# Altium footprint library Stäubli-1MM-DOWN.PcbLib: 10 footprints
Each footprint in its own frame and in the unit in brackets; x right, y up, seen from the top. Pads: shape width x height; smd on the part's side, far side on the other; paste and mask are expansions set on the pad; w line width, h text height; cw(c..) or ccw(c..) is an arc to the next point about the centre after c.
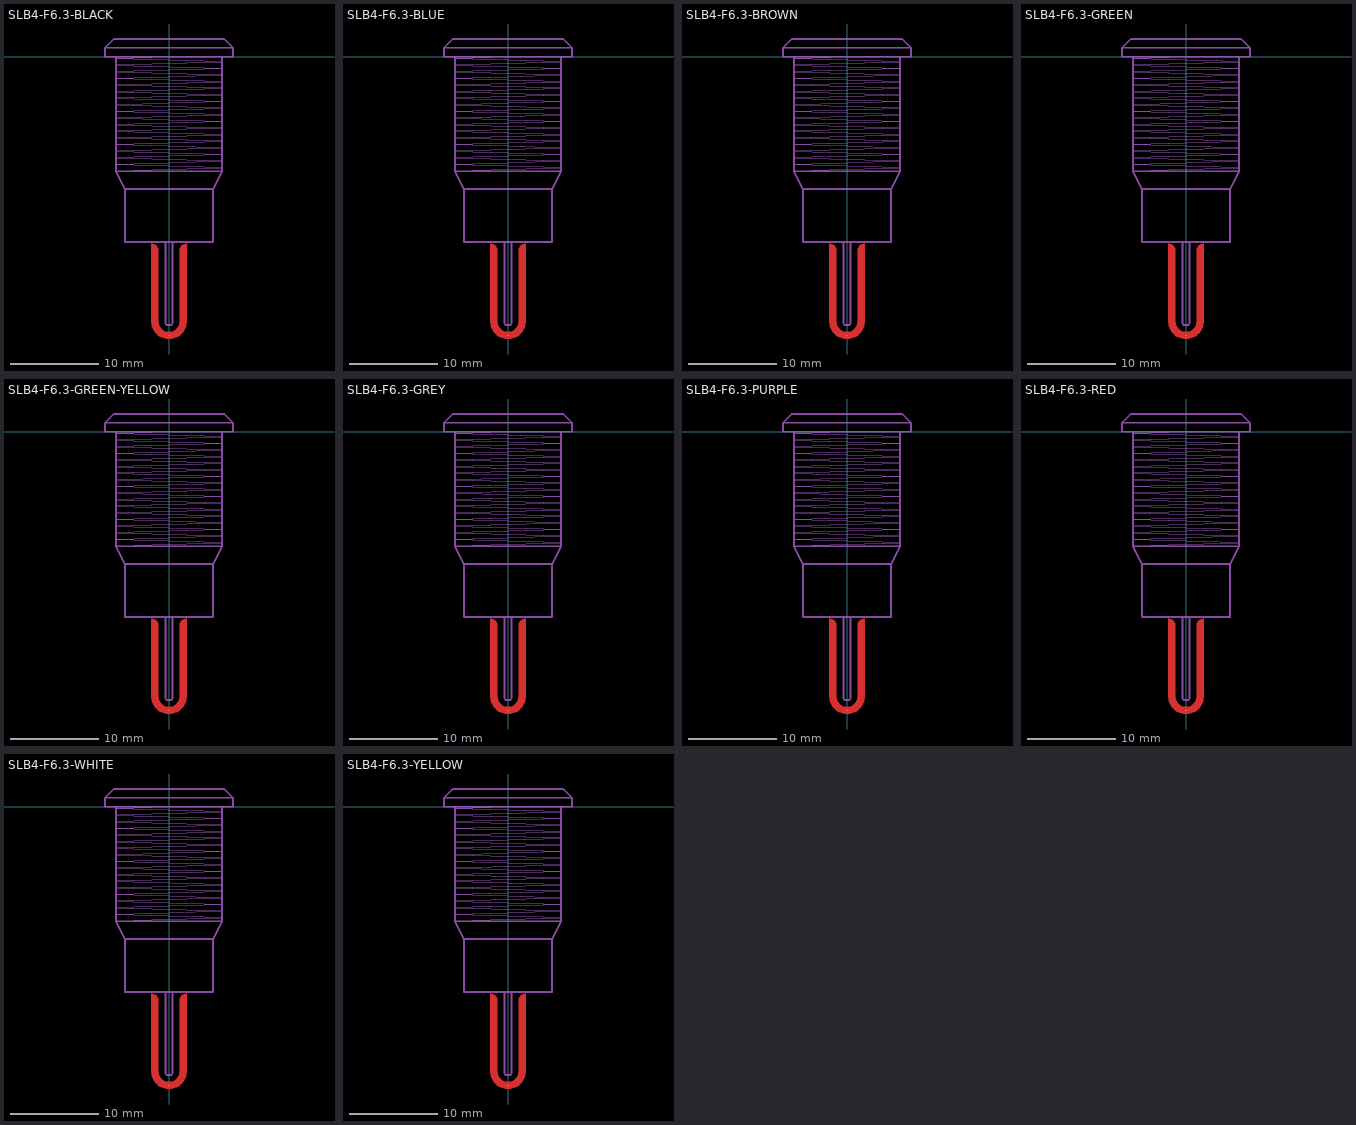
[diagram p0: the footprints below, top view; thin cyan lines are the x and y axes]

## SLB4-F6.3-BLACK [mil]
pads (1):
  round 1 smd: 1(0,-1244.09)
Top Layer:
  region: -47.24,-1181.1 -47.17,-1183.75 -46.58,-1189.02 -45.4,-1194.18 -43.65,-1199.18 -41.35,-1203.96 -38.53,-1208.44 -35.23,-1212.58 -31.48,-1216.33 -27.34,-1219.63 -22.85,-1222.45 -18.08,-1224.75 -13.08,-1226.5 -7.91,-1227.68 -2.65,-1228.27 2.65,-1228.27 7.91,-1227.68 13.08,-1226.5 18.08,-1224.75 22.85,-1222.45 27.34,-1219.63 31.48,-1216.33 35.23,-1212.58 38.53,-1208.44 41.35,-1203.96 43.65,-1199.18 45.4,-1194.18 46.58,-1189.02 47.17,-1183.75 47.24,-1181.1 47.24,-866.14 47.24,-864.08 47.78,-859.98 48.85,-856 50.43,-852.18 52.5,-848.61 55.01,-845.33 57.93,-842.41 61.2,-839.9 64.78,-837.83 68.59,-836.25 72.58,-835.18 76.68,-834.65 78.74,-834.65 78.74,-1181.1 78.74,-1184.97 77.98,-1192.67 76.47,-1200.26 74.23,-1207.66 71.27,-1214.81 67.62,-1221.63 63.32,-1228.06 58.41,-1234.04 52.94,-1239.52 46.96,-1244.42 40.53,-1248.72 33.71,-1252.37 26.56,-1255.33 19.16,-1257.57 11.57,-1259.08 3.87,-1259.84 -3.87,-1259.84 -11.57,-1259.08 -19.16,-1257.57 -26.56,-1255.33 -33.71,-1252.37 -40.53,-1248.72 -46.96,-1244.42 -52.94,-1239.52 -58.41,-1234.04 -63.32,-1228.06 -67.62,-1221.63 -71.27,-1214.81 -74.23,-1207.66 -76.47,-1200.26 -77.98,-1192.67 -78.74,-1184.97 -78.74,-1181.1 -78.74,-834.65 -76.68,-834.65 -72.58,-835.18 -68.59,-836.25 -64.78,-837.83 -61.2,-839.9 -57.93,-842.41 -55.01,-845.33 -52.5,-848.61 -50.43,-852.18 -48.85,-856 -47.78,-859.98 -47.24,-864.08 -47.24,-866.14
Top Assembly:
  lines w3.94: -236.22,-508.86 0,-501.97 236.22,-495.08 ; -236.22,-479.33 0,-472.44 236.22,-465.55 ; -236.22,-449.8 0,-442.91 236.22,-436.02 ; -236.22,-420.28 0,-413.39 236.22,-406.5 ; -236.22,-390.75 0,-383.86 236.22,-376.97 ; -236.22,-361.22 0,-354.33 236.22,-347.44 ; -236.22,-331.69 0,-324.8 236.22,-317.91 ; -236.22,-302.17 0,-295.28 236.22,-288.39 ; -236.22,-272.64 0,-265.75 236.22,-258.86 ; -236.22,-243.11 0,-236.22 236.22,-229.33 ; -236.22,-213.58 0,-206.69 236.22,-199.8 ; -236.22,-184.06 0,-177.17 236.22,-170.28 ; -236.22,-154.53 0,-147.64 236.22,-140.75 ; -236.22,-125 0,-118.11 236.22,-111.22 ; -236.22,-95.47 0,-88.58 236.22,-81.69 ; -236.22,-65.94 0,-59.06 236.22,-52.17 ; -236.22,-36.42 0,-29.53 236.22,-22.64 ; -236.22,-6.89 0,0
  lines w7.87: -236.22,0 -236.22,-511.81 ; -15.75,-826.77 -15.75,-1188.98 -11.81,-1196.85 11.81,-1196.85 15.75,-1188.98 15.75,-826.77 ; 236.22,0 236.22,-511.81 ; -285.43,39.37 -246.06,78.74 246.06,78.74 285.43,39.37 ; -285.43,39.37 -285.43,0 285.43,0 285.43,39.37 ; -285.43,39.37 285.43,39.37 ; -236.22,-511.81 236.22,-511.81 ; -236.22,-511.81 -196.85,-590.55 ; -196.85,-590.55 196.85,-590.55 ; -196.85,-590.55 -196.85,-826.77 196.85,-826.77 196.85,-590.55 ; 196.85,-590.55 236.22,-511.81
Bottom Assembly (Mech12):
  lines w3.94: -236.22,-480.31 0,-487.2 236.22,-494.09 ; -236.22,-450.79 0,-457.68 236.22,-464.57 ; -236.22,-421.26 0,-428.15 236.22,-435.04 ; -236.22,-391.73 0,-398.62 236.22,-405.51 ; -236.22,-362.2 0,-369.09 236.22,-375.98 ; -236.22,-332.68 0,-339.57 236.22,-346.46 ; -236.22,-303.15 0,-310.04 236.22,-316.93 ; -236.22,-273.62 0,-280.51 236.22,-287.4 ; -236.22,-244.09 0,-250.98 236.22,-257.87 ; -236.22,-214.57 0,-221.46 236.22,-228.35 ; -236.22,-185.04 0,-191.93 236.22,-198.82 ; -236.22,-155.51 0,-162.4 236.22,-169.29 ; -236.22,-125.98 0,-132.87 236.22,-139.76 ; -236.22,-96.46 0,-103.35 236.22,-110.24 ; -236.22,-66.93 0,-73.82 236.22,-80.71 ; -236.22,-37.4 0,-44.29 236.22,-51.18 ; -236.22,-7.87 0,-14.76 236.22,-21.65
  lines w7.87: -236.22,0 -236.22,-511.81 ; -15.75,-826.77 -15.75,-1188.98 -11.81,-1196.85 11.81,-1196.85 15.75,-1188.98 15.75,-826.77 ; 236.22,0 236.22,-511.81 ; -285.43,39.37 -285.43,0 285.43,0 285.43,39.37 ; -285.43,39.37 -246.06,78.74 246.06,78.74 285.43,39.37 ; -285.43,39.37 285.43,39.37 ; -236.22,-511.81 236.22,-511.81 ; -236.22,-511.81 -196.85,-590.55 ; -196.85,-590.55 196.85,-590.55 ; -196.85,-590.55 -196.85,-826.77 196.85,-826.77 196.85,-590.55 ; 196.85,-590.55 236.22,-511.81
3D body "SLB4-F6.3_black.step": height 245.47, standoff -324.8, extent -285.27,-1196.85 285.27,78.74

## SLB4-F6.3-BLUE [mil]
pads (1):
  round 1 smd: 1(0,-1244.09)
Top Layer:
  region: -47.24,-1181.1 -47.17,-1183.75 -46.58,-1189.02 -45.4,-1194.18 -43.65,-1199.18 -41.35,-1203.96 -38.53,-1208.44 -35.23,-1212.58 -31.48,-1216.33 -27.34,-1219.63 -22.85,-1222.45 -18.08,-1224.75 -13.08,-1226.5 -7.91,-1227.68 -2.65,-1228.27 2.65,-1228.27 7.91,-1227.68 13.08,-1226.5 18.08,-1224.75 22.85,-1222.45 27.34,-1219.63 31.48,-1216.33 35.23,-1212.58 38.53,-1208.44 41.35,-1203.96 43.65,-1199.18 45.4,-1194.18 46.58,-1189.02 47.17,-1183.75 47.24,-1181.1 47.24,-866.14 47.24,-864.08 47.78,-859.98 48.85,-856 50.43,-852.18 52.5,-848.61 55.01,-845.33 57.93,-842.41 61.2,-839.9 64.78,-837.83 68.59,-836.25 72.58,-835.18 76.68,-834.65 78.74,-834.65 78.74,-1181.1 78.74,-1184.97 77.98,-1192.67 76.47,-1200.26 74.23,-1207.66 71.27,-1214.81 67.62,-1221.63 63.32,-1228.06 58.41,-1234.04 52.94,-1239.52 46.96,-1244.42 40.53,-1248.72 33.71,-1252.37 26.56,-1255.33 19.16,-1257.57 11.57,-1259.08 3.87,-1259.84 -3.87,-1259.84 -11.57,-1259.08 -19.16,-1257.57 -26.56,-1255.33 -33.71,-1252.37 -40.53,-1248.72 -46.96,-1244.42 -52.94,-1239.52 -58.41,-1234.04 -63.32,-1228.06 -67.62,-1221.63 -71.27,-1214.81 -74.23,-1207.66 -76.47,-1200.26 -77.98,-1192.67 -78.74,-1184.97 -78.74,-1181.1 -78.74,-834.65 -76.68,-834.65 -72.58,-835.18 -68.59,-836.25 -64.78,-837.83 -61.2,-839.9 -57.93,-842.41 -55.01,-845.33 -52.5,-848.61 -50.43,-852.18 -48.85,-856 -47.78,-859.98 -47.24,-864.08 -47.24,-866.14
Top Assembly:
  lines w3.94: -236.22,-508.86 0,-501.97 236.22,-495.08 ; -236.22,-479.33 0,-472.44 236.22,-465.55 ; -236.22,-449.8 0,-442.91 236.22,-436.02 ; -236.22,-420.28 0,-413.39 236.22,-406.5 ; -236.22,-390.75 0,-383.86 236.22,-376.97 ; -236.22,-361.22 0,-354.33 236.22,-347.44 ; -236.22,-331.69 0,-324.8 236.22,-317.91 ; -236.22,-302.17 0,-295.28 236.22,-288.39 ; -236.22,-272.64 0,-265.75 236.22,-258.86 ; -236.22,-243.11 0,-236.22 236.22,-229.33 ; -236.22,-213.58 0,-206.69 236.22,-199.8 ; -236.22,-184.06 0,-177.17 236.22,-170.28 ; -236.22,-154.53 0,-147.64 236.22,-140.75 ; -236.22,-125 0,-118.11 236.22,-111.22 ; -236.22,-95.47 0,-88.58 236.22,-81.69 ; -236.22,-65.94 0,-59.06 236.22,-52.17 ; -236.22,-36.42 0,-29.53 236.22,-22.64 ; -236.22,-6.89 0,0
  lines w7.87: -236.22,0 -236.22,-511.81 ; -15.75,-826.77 -15.75,-1188.98 -11.81,-1196.85 11.81,-1196.85 15.75,-1188.98 15.75,-826.77 ; 236.22,0 236.22,-511.81 ; -285.43,39.37 285.43,39.37 ; -285.43,39.37 -285.43,0 285.43,0 285.43,39.37 ; -285.43,39.37 -246.06,78.74 246.06,78.74 285.43,39.37 ; -236.22,-511.81 -196.85,-590.55 ; -236.22,-511.81 236.22,-511.81 ; -196.85,-590.55 -196.85,-826.77 196.85,-826.77 196.85,-590.55 ; -196.85,-590.55 196.85,-590.55 ; 196.85,-590.55 236.22,-511.81
Bottom Assembly (Mech12):
  lines w3.94: -236.22,-480.31 0,-487.2 236.22,-494.09 ; -236.22,-450.79 0,-457.68 236.22,-464.57 ; -236.22,-421.26 0,-428.15 236.22,-435.04 ; -236.22,-391.73 0,-398.62 236.22,-405.51 ; -236.22,-362.2 0,-369.09 236.22,-375.98 ; -236.22,-332.68 0,-339.57 236.22,-346.46 ; -236.22,-303.15 0,-310.04 236.22,-316.93 ; -236.22,-273.62 0,-280.51 236.22,-287.4 ; -236.22,-244.09 0,-250.98 236.22,-257.87 ; -236.22,-214.57 0,-221.46 236.22,-228.35 ; -236.22,-185.04 0,-191.93 236.22,-198.82 ; -236.22,-155.51 0,-162.4 236.22,-169.29 ; -236.22,-125.98 0,-132.87 236.22,-139.76 ; -236.22,-96.46 0,-103.35 236.22,-110.24 ; -236.22,-66.93 0,-73.82 236.22,-80.71 ; -236.22,-37.4 0,-44.29 236.22,-51.18 ; -236.22,-7.87 0,-14.76 236.22,-21.65
  lines w7.87: -236.22,0 -236.22,-511.81 ; -15.75,-826.77 -15.75,-1188.98 -11.81,-1196.85 11.81,-1196.85 15.75,-1188.98 15.75,-826.77 ; 236.22,0 236.22,-511.81 ; -285.43,39.37 285.43,39.37 ; -285.43,39.37 -246.06,78.74 246.06,78.74 285.43,39.37 ; -285.43,39.37 -285.43,0 285.43,0 285.43,39.37 ; -236.22,-511.81 -196.85,-590.55 ; -236.22,-511.81 236.22,-511.81 ; -196.85,-590.55 -196.85,-826.77 196.85,-826.77 196.85,-590.55 ; -196.85,-590.55 196.85,-590.55 ; 196.85,-590.55 236.22,-511.81
3D body "SLB4-F6.3_blue.step": height 245.47, standoff -324.8, extent -285.27,-1196.85 285.27,78.74

## SLB4-F6.3-BROWN [mil]
pads (1):
  round 1 smd: 1(0,-1244.09)
Top Layer:
  region: -47.24,-1181.1 -47.17,-1183.75 -46.58,-1189.02 -45.4,-1194.18 -43.65,-1199.18 -41.35,-1203.96 -38.53,-1208.44 -35.23,-1212.58 -31.48,-1216.33 -27.34,-1219.63 -22.85,-1222.45 -18.08,-1224.75 -13.08,-1226.5 -7.91,-1227.68 -2.65,-1228.27 2.65,-1228.27 7.91,-1227.68 13.08,-1226.5 18.08,-1224.75 22.85,-1222.45 27.34,-1219.63 31.48,-1216.33 35.23,-1212.58 38.53,-1208.44 41.35,-1203.96 43.65,-1199.18 45.4,-1194.18 46.58,-1189.02 47.17,-1183.75 47.24,-1181.1 47.24,-866.14 47.24,-864.08 47.78,-859.98 48.85,-856 50.43,-852.18 52.5,-848.61 55.01,-845.33 57.93,-842.41 61.2,-839.9 64.78,-837.83 68.59,-836.25 72.58,-835.18 76.68,-834.65 78.74,-834.65 78.74,-1181.1 78.74,-1184.97 77.98,-1192.67 76.47,-1200.26 74.23,-1207.66 71.27,-1214.81 67.62,-1221.63 63.32,-1228.06 58.41,-1234.04 52.94,-1239.52 46.96,-1244.42 40.53,-1248.72 33.71,-1252.37 26.56,-1255.33 19.16,-1257.57 11.57,-1259.08 3.87,-1259.84 -3.87,-1259.84 -11.57,-1259.08 -19.16,-1257.57 -26.56,-1255.33 -33.71,-1252.37 -40.53,-1248.72 -46.96,-1244.42 -52.94,-1239.52 -58.41,-1234.04 -63.32,-1228.06 -67.62,-1221.63 -71.27,-1214.81 -74.23,-1207.66 -76.47,-1200.26 -77.98,-1192.67 -78.74,-1184.97 -78.74,-1181.1 -78.74,-834.65 -76.68,-834.65 -72.58,-835.18 -68.59,-836.25 -64.78,-837.83 -61.2,-839.9 -57.93,-842.41 -55.01,-845.33 -52.5,-848.61 -50.43,-852.18 -48.85,-856 -47.78,-859.98 -47.24,-864.08 -47.24,-866.14
Top Assembly:
  lines w3.94: -236.22,-508.86 0,-501.97 236.22,-495.08 ; -236.22,-479.33 0,-472.44 236.22,-465.55 ; -236.22,-449.8 0,-442.91 236.22,-436.02 ; -236.22,-420.28 0,-413.39 236.22,-406.5 ; -236.22,-390.75 0,-383.86 236.22,-376.97 ; -236.22,-361.22 0,-354.33 236.22,-347.44 ; -236.22,-331.69 0,-324.8 236.22,-317.91 ; -236.22,-302.17 0,-295.28 236.22,-288.39 ; -236.22,-272.64 0,-265.75 236.22,-258.86 ; -236.22,-243.11 0,-236.22 236.22,-229.33 ; -236.22,-213.58 0,-206.69 236.22,-199.8 ; -236.22,-184.06 0,-177.17 236.22,-170.28 ; -236.22,-154.53 0,-147.64 236.22,-140.75 ; -236.22,-125 0,-118.11 236.22,-111.22 ; -236.22,-95.47 0,-88.58 236.22,-81.69 ; -236.22,-65.94 0,-59.06 236.22,-52.17 ; -236.22,-36.42 0,-29.53 236.22,-22.64 ; -236.22,-6.89 0,0
  lines w7.87: -236.22,0 -236.22,-511.81 ; -15.75,-826.77 -15.75,-1188.98 -11.81,-1196.85 11.81,-1196.85 15.75,-1188.98 15.75,-826.77 ; 236.22,0 236.22,-511.81 ; -285.43,39.37 285.43,39.37 ; -285.43,39.37 -285.43,0 285.43,0 285.43,39.37 ; -285.43,39.37 -246.06,78.74 246.06,78.74 285.43,39.37 ; -236.22,-511.81 -196.85,-590.55 ; -236.22,-511.81 236.22,-511.81 ; -196.85,-590.55 -196.85,-826.77 196.85,-826.77 196.85,-590.55 ; -196.85,-590.55 196.85,-590.55 ; 196.85,-590.55 236.22,-511.81
Bottom Assembly (Mech12):
  lines w3.94: -236.22,-480.31 0,-487.2 236.22,-494.09 ; -236.22,-450.79 0,-457.68 236.22,-464.57 ; -236.22,-421.26 0,-428.15 236.22,-435.04 ; -236.22,-391.73 0,-398.62 236.22,-405.51 ; -236.22,-362.2 0,-369.09 236.22,-375.98 ; -236.22,-332.68 0,-339.57 236.22,-346.46 ; -236.22,-303.15 0,-310.04 236.22,-316.93 ; -236.22,-273.62 0,-280.51 236.22,-287.4 ; -236.22,-244.09 0,-250.98 236.22,-257.87 ; -236.22,-214.57 0,-221.46 236.22,-228.35 ; -236.22,-185.04 0,-191.93 236.22,-198.82 ; -236.22,-155.51 0,-162.4 236.22,-169.29 ; -236.22,-125.98 0,-132.87 236.22,-139.76 ; -236.22,-96.46 0,-103.35 236.22,-110.24 ; -236.22,-66.93 0,-73.82 236.22,-80.71 ; -236.22,-37.4 0,-44.29 236.22,-51.18 ; -236.22,-7.87 0,-14.76 236.22,-21.65
  lines w7.87: -236.22,0 -236.22,-511.81 ; -15.75,-826.77 -15.75,-1188.98 -11.81,-1196.85 11.81,-1196.85 15.75,-1188.98 15.75,-826.77 ; 236.22,0 236.22,-511.81 ; -285.43,39.37 285.43,39.37 ; -285.43,39.37 -246.06,78.74 246.06,78.74 285.43,39.37 ; -285.43,39.37 -285.43,0 285.43,0 285.43,39.37 ; -236.22,-511.81 -196.85,-590.55 ; -236.22,-511.81 236.22,-511.81 ; -196.85,-590.55 -196.85,-826.77 196.85,-826.77 196.85,-590.55 ; -196.85,-590.55 196.85,-590.55 ; 196.85,-590.55 236.22,-511.81
3D body "SLB4-F6.3_brown.step": height 245.47, standoff -324.8, extent -285.27,-1196.85 285.27,78.74

## SLB4-F6.3-GREEN [mil]
pads (1):
  round 1 smd: 1(0,-1244.09)
Top Layer:
  region: -47.24,-1181.1 -47.17,-1183.75 -46.58,-1189.02 -45.4,-1194.18 -43.65,-1199.18 -41.35,-1203.96 -38.53,-1208.44 -35.23,-1212.58 -31.48,-1216.33 -27.34,-1219.63 -22.85,-1222.45 -18.08,-1224.75 -13.08,-1226.5 -7.91,-1227.68 -2.65,-1228.27 2.65,-1228.27 7.91,-1227.68 13.08,-1226.5 18.08,-1224.75 22.85,-1222.45 27.34,-1219.63 31.48,-1216.33 35.23,-1212.58 38.53,-1208.44 41.35,-1203.96 43.65,-1199.18 45.4,-1194.18 46.58,-1189.02 47.17,-1183.75 47.24,-1181.1 47.24,-866.14 47.24,-864.08 47.78,-859.98 48.85,-856 50.43,-852.18 52.5,-848.61 55.01,-845.33 57.93,-842.41 61.2,-839.9 64.78,-837.83 68.59,-836.25 72.58,-835.18 76.68,-834.65 78.74,-834.65 78.74,-1181.1 78.74,-1184.97 77.98,-1192.67 76.47,-1200.26 74.23,-1207.66 71.27,-1214.81 67.62,-1221.63 63.32,-1228.06 58.41,-1234.04 52.94,-1239.52 46.96,-1244.42 40.53,-1248.72 33.71,-1252.37 26.56,-1255.33 19.16,-1257.57 11.57,-1259.08 3.87,-1259.84 -3.87,-1259.84 -11.57,-1259.08 -19.16,-1257.57 -26.56,-1255.33 -33.71,-1252.37 -40.53,-1248.72 -46.96,-1244.42 -52.94,-1239.52 -58.41,-1234.04 -63.32,-1228.06 -67.62,-1221.63 -71.27,-1214.81 -74.23,-1207.66 -76.47,-1200.26 -77.98,-1192.67 -78.74,-1184.97 -78.74,-1181.1 -78.74,-834.65 -76.68,-834.65 -72.58,-835.18 -68.59,-836.25 -64.78,-837.83 -61.2,-839.9 -57.93,-842.41 -55.01,-845.33 -52.5,-848.61 -50.43,-852.18 -48.85,-856 -47.78,-859.98 -47.24,-864.08 -47.24,-866.14
Top Assembly:
  lines w3.94: -236.22,-508.86 0,-501.97 236.22,-495.08 ; -236.22,-479.33 0,-472.44 236.22,-465.55 ; -236.22,-449.8 0,-442.91 236.22,-436.02 ; -236.22,-420.28 0,-413.39 236.22,-406.5 ; -236.22,-390.75 0,-383.86 236.22,-376.97 ; -236.22,-361.22 0,-354.33 236.22,-347.44 ; -236.22,-331.69 0,-324.8 236.22,-317.91 ; -236.22,-302.17 0,-295.28 236.22,-288.39 ; -236.22,-272.64 0,-265.75 236.22,-258.86 ; -236.22,-243.11 0,-236.22 236.22,-229.33 ; -236.22,-213.58 0,-206.69 236.22,-199.8 ; -236.22,-184.06 0,-177.17 236.22,-170.28 ; -236.22,-154.53 0,-147.64 236.22,-140.75 ; -236.22,-125 0,-118.11 236.22,-111.22 ; -236.22,-95.47 0,-88.58 236.22,-81.69 ; -236.22,-65.94 0,-59.06 236.22,-52.17 ; -236.22,-36.42 0,-29.53 236.22,-22.64 ; -236.22,-6.89 0,0
  lines w7.87: -236.22,0 -236.22,-511.81 ; -15.75,-826.77 -15.75,-1188.98 -11.81,-1196.85 11.81,-1196.85 15.75,-1188.98 15.75,-826.77 ; 236.22,0 236.22,-511.81 ; -285.43,39.37 285.43,39.37 ; -285.43,39.37 -285.43,0 285.43,0 285.43,39.37 ; -285.43,39.37 -246.06,78.74 246.06,78.74 285.43,39.37 ; -236.22,-511.81 -196.85,-590.55 ; -236.22,-511.81 236.22,-511.81 ; -196.85,-590.55 -196.85,-826.77 196.85,-826.77 196.85,-590.55 ; -196.85,-590.55 196.85,-590.55 ; 196.85,-590.55 236.22,-511.81
Bottom Assembly (Mech12):
  lines w3.94: -236.22,-480.31 0,-487.2 236.22,-494.09 ; -236.22,-450.79 0,-457.68 236.22,-464.57 ; -236.22,-421.26 0,-428.15 236.22,-435.04 ; -236.22,-391.73 0,-398.62 236.22,-405.51 ; -236.22,-362.2 0,-369.09 236.22,-375.98 ; -236.22,-332.68 0,-339.57 236.22,-346.46 ; -236.22,-303.15 0,-310.04 236.22,-316.93 ; -236.22,-273.62 0,-280.51 236.22,-287.4 ; -236.22,-244.09 0,-250.98 236.22,-257.87 ; -236.22,-214.57 0,-221.46 236.22,-228.35 ; -236.22,-185.04 0,-191.93 236.22,-198.82 ; -236.22,-155.51 0,-162.4 236.22,-169.29 ; -236.22,-125.98 0,-132.87 236.22,-139.76 ; -236.22,-96.46 0,-103.35 236.22,-110.24 ; -236.22,-66.93 0,-73.82 236.22,-80.71 ; -236.22,-37.4 0,-44.29 236.22,-51.18 ; -236.22,-7.87 0,-14.76 236.22,-21.65
  lines w7.87: -236.22,0 -236.22,-511.81 ; -15.75,-826.77 -15.75,-1188.98 -11.81,-1196.85 11.81,-1196.85 15.75,-1188.98 15.75,-826.77 ; 236.22,0 236.22,-511.81 ; -285.43,39.37 285.43,39.37 ; -285.43,39.37 -246.06,78.74 246.06,78.74 285.43,39.37 ; -285.43,39.37 -285.43,0 285.43,0 285.43,39.37 ; -236.22,-511.81 -196.85,-590.55 ; -236.22,-511.81 236.22,-511.81 ; -196.85,-590.55 -196.85,-826.77 196.85,-826.77 196.85,-590.55 ; -196.85,-590.55 196.85,-590.55 ; 196.85,-590.55 236.22,-511.81
3D body "SLB4-F6.3_green.step": height 245.47, standoff -324.8, extent -285.27,-1196.85 285.27,78.74

## SLB4-F6.3-GREEN-YELLOW [mil]
pads (1):
  round 1 smd: 1(0,-1244.09)
Top Layer:
  region: -47.24,-1181.1 -47.17,-1183.75 -46.58,-1189.02 -45.4,-1194.18 -43.65,-1199.18 -41.35,-1203.96 -38.53,-1208.44 -35.23,-1212.58 -31.48,-1216.33 -27.34,-1219.63 -22.85,-1222.45 -18.08,-1224.75 -13.08,-1226.5 -7.91,-1227.68 -2.65,-1228.27 2.65,-1228.27 7.91,-1227.68 13.08,-1226.5 18.08,-1224.75 22.85,-1222.45 27.34,-1219.63 31.48,-1216.33 35.23,-1212.58 38.53,-1208.44 41.35,-1203.96 43.65,-1199.18 45.4,-1194.18 46.58,-1189.02 47.17,-1183.75 47.24,-1181.1 47.24,-866.14 47.24,-864.08 47.78,-859.98 48.85,-856 50.43,-852.18 52.5,-848.61 55.01,-845.33 57.93,-842.41 61.2,-839.9 64.78,-837.83 68.59,-836.25 72.58,-835.18 76.68,-834.65 78.74,-834.65 78.74,-1181.1 78.74,-1184.97 77.98,-1192.67 76.47,-1200.26 74.23,-1207.66 71.27,-1214.81 67.62,-1221.63 63.32,-1228.06 58.41,-1234.04 52.94,-1239.52 46.96,-1244.42 40.53,-1248.72 33.71,-1252.37 26.56,-1255.33 19.16,-1257.57 11.57,-1259.08 3.87,-1259.84 -3.87,-1259.84 -11.57,-1259.08 -19.16,-1257.57 -26.56,-1255.33 -33.71,-1252.37 -40.53,-1248.72 -46.96,-1244.42 -52.94,-1239.52 -58.41,-1234.04 -63.32,-1228.06 -67.62,-1221.63 -71.27,-1214.81 -74.23,-1207.66 -76.47,-1200.26 -77.98,-1192.67 -78.74,-1184.97 -78.74,-1181.1 -78.74,-834.65 -76.68,-834.65 -72.58,-835.18 -68.59,-836.25 -64.78,-837.83 -61.2,-839.9 -57.93,-842.41 -55.01,-845.33 -52.5,-848.61 -50.43,-852.18 -48.85,-856 -47.78,-859.98 -47.24,-864.08 -47.24,-866.14
Top Assembly:
  lines w3.94: -236.22,-508.86 0,-501.97 236.22,-495.08 ; -236.22,-479.33 0,-472.44 236.22,-465.55 ; -236.22,-449.8 0,-442.91 236.22,-436.02 ; -236.22,-420.28 0,-413.39 236.22,-406.5 ; -236.22,-390.75 0,-383.86 236.22,-376.97 ; -236.22,-361.22 0,-354.33 236.22,-347.44 ; -236.22,-331.69 0,-324.8 236.22,-317.91 ; -236.22,-302.17 0,-295.28 236.22,-288.39 ; -236.22,-272.64 0,-265.75 236.22,-258.86 ; -236.22,-243.11 0,-236.22 236.22,-229.33 ; -236.22,-213.58 0,-206.69 236.22,-199.8 ; -236.22,-184.06 0,-177.17 236.22,-170.28 ; -236.22,-154.53 0,-147.64 236.22,-140.75 ; -236.22,-125 0,-118.11 236.22,-111.22 ; -236.22,-95.47 0,-88.58 236.22,-81.69 ; -236.22,-65.94 0,-59.06 236.22,-52.17 ; -236.22,-36.42 0,-29.53 236.22,-22.64 ; -236.22,-6.89 0,0
  lines w7.87: -236.22,0 -236.22,-511.81 ; -15.75,-826.77 -15.75,-1188.98 -11.81,-1196.85 11.81,-1196.85 15.75,-1188.98 15.75,-826.77 ; 236.22,0 236.22,-511.81 ; -285.43,39.37 285.43,39.37 ; -285.43,39.37 -285.43,0 285.43,0 285.43,39.37 ; -285.43,39.37 -246.06,78.74 246.06,78.74 285.43,39.37 ; -236.22,-511.81 -196.85,-590.55 ; -236.22,-511.81 236.22,-511.81 ; -196.85,-590.55 -196.85,-826.77 196.85,-826.77 196.85,-590.55 ; -196.85,-590.55 196.85,-590.55 ; 196.85,-590.55 236.22,-511.81
Bottom Assembly (Mech12):
  lines w3.94: -236.22,-480.31 0,-487.2 236.22,-494.09 ; -236.22,-450.79 0,-457.68 236.22,-464.57 ; -236.22,-421.26 0,-428.15 236.22,-435.04 ; -236.22,-391.73 0,-398.62 236.22,-405.51 ; -236.22,-362.2 0,-369.09 236.22,-375.98 ; -236.22,-332.68 0,-339.57 236.22,-346.46 ; -236.22,-303.15 0,-310.04 236.22,-316.93 ; -236.22,-273.62 0,-280.51 236.22,-287.4 ; -236.22,-244.09 0,-250.98 236.22,-257.87 ; -236.22,-214.57 0,-221.46 236.22,-228.35 ; -236.22,-185.04 0,-191.93 236.22,-198.82 ; -236.22,-155.51 0,-162.4 236.22,-169.29 ; -236.22,-125.98 0,-132.87 236.22,-139.76 ; -236.22,-96.46 0,-103.35 236.22,-110.24 ; -236.22,-66.93 0,-73.82 236.22,-80.71 ; -236.22,-37.4 0,-44.29 236.22,-51.18 ; -236.22,-7.87 0,-14.76 236.22,-21.65
  lines w7.87: -236.22,0 -236.22,-511.81 ; -15.75,-826.77 -15.75,-1188.98 -11.81,-1196.85 11.81,-1196.85 15.75,-1188.98 15.75,-826.77 ; 236.22,0 236.22,-511.81 ; -285.43,39.37 285.43,39.37 ; -285.43,39.37 -246.06,78.74 246.06,78.74 285.43,39.37 ; -285.43,39.37 -285.43,0 285.43,0 285.43,39.37 ; -236.22,-511.81 -196.85,-590.55 ; -236.22,-511.81 236.22,-511.81 ; -196.85,-590.55 -196.85,-826.77 196.85,-826.77 196.85,-590.55 ; -196.85,-590.55 196.85,-590.55 ; 196.85,-590.55 236.22,-511.81
3D body "SLB4-F6.3_green-yellow.step": height 245.47, standoff -324.8, extent -285.27,-1196.85 285.27,78.74

## SLB4-F6.3-GREY [mil]
pads (1):
  round 1 smd: 1(0,-1244.09)
Top Layer:
  region: -47.24,-1181.1 -47.17,-1183.75 -46.58,-1189.02 -45.4,-1194.18 -43.65,-1199.18 -41.35,-1203.96 -38.53,-1208.44 -35.23,-1212.58 -31.48,-1216.33 -27.34,-1219.63 -22.85,-1222.45 -18.08,-1224.75 -13.08,-1226.5 -7.91,-1227.68 -2.65,-1228.27 2.65,-1228.27 7.91,-1227.68 13.08,-1226.5 18.08,-1224.75 22.85,-1222.45 27.34,-1219.63 31.48,-1216.33 35.23,-1212.58 38.53,-1208.44 41.35,-1203.96 43.65,-1199.18 45.4,-1194.18 46.58,-1189.02 47.17,-1183.75 47.24,-1181.1 47.24,-866.14 47.24,-864.08 47.78,-859.98 48.85,-856 50.43,-852.18 52.5,-848.61 55.01,-845.33 57.93,-842.41 61.2,-839.9 64.78,-837.83 68.59,-836.25 72.58,-835.18 76.68,-834.65 78.74,-834.65 78.74,-1181.1 78.74,-1184.97 77.98,-1192.67 76.47,-1200.26 74.23,-1207.66 71.27,-1214.81 67.62,-1221.63 63.32,-1228.06 58.41,-1234.04 52.94,-1239.52 46.96,-1244.42 40.53,-1248.72 33.71,-1252.37 26.56,-1255.33 19.16,-1257.57 11.57,-1259.08 3.87,-1259.84 -3.87,-1259.84 -11.57,-1259.08 -19.16,-1257.57 -26.56,-1255.33 -33.71,-1252.37 -40.53,-1248.72 -46.96,-1244.42 -52.94,-1239.52 -58.41,-1234.04 -63.32,-1228.06 -67.62,-1221.63 -71.27,-1214.81 -74.23,-1207.66 -76.47,-1200.26 -77.98,-1192.67 -78.74,-1184.97 -78.74,-1181.1 -78.74,-834.65 -76.68,-834.65 -72.58,-835.18 -68.59,-836.25 -64.78,-837.83 -61.2,-839.9 -57.93,-842.41 -55.01,-845.33 -52.5,-848.61 -50.43,-852.18 -48.85,-856 -47.78,-859.98 -47.24,-864.08 -47.24,-866.14
Top Assembly:
  lines w3.94: -236.22,-508.86 0,-501.97 236.22,-495.08 ; -236.22,-479.33 0,-472.44 236.22,-465.55 ; -236.22,-449.8 0,-442.91 236.22,-436.02 ; -236.22,-420.28 0,-413.39 236.22,-406.5 ; -236.22,-390.75 0,-383.86 236.22,-376.97 ; -236.22,-361.22 0,-354.33 236.22,-347.44 ; -236.22,-331.69 0,-324.8 236.22,-317.91 ; -236.22,-302.17 0,-295.28 236.22,-288.39 ; -236.22,-272.64 0,-265.75 236.22,-258.86 ; -236.22,-243.11 0,-236.22 236.22,-229.33 ; -236.22,-213.58 0,-206.69 236.22,-199.8 ; -236.22,-184.06 0,-177.17 236.22,-170.28 ; -236.22,-154.53 0,-147.64 236.22,-140.75 ; -236.22,-125 0,-118.11 236.22,-111.22 ; -236.22,-95.47 0,-88.58 236.22,-81.69 ; -236.22,-65.94 0,-59.06 236.22,-52.17 ; -236.22,-36.42 0,-29.53 236.22,-22.64 ; -236.22,-6.89 0,0
  lines w7.87: -236.22,0 -236.22,-511.81 ; -15.75,-826.77 -15.75,-1188.98 -11.81,-1196.85 11.81,-1196.85 15.75,-1188.98 15.75,-826.77 ; 236.22,0 236.22,-511.81 ; -285.43,39.37 285.43,39.37 ; -285.43,39.37 -285.43,0 285.43,0 285.43,39.37 ; -285.43,39.37 -246.06,78.74 246.06,78.74 285.43,39.37 ; -236.22,-511.81 -196.85,-590.55 ; -236.22,-511.81 236.22,-511.81 ; -196.85,-590.55 -196.85,-826.77 196.85,-826.77 196.85,-590.55 ; -196.85,-590.55 196.85,-590.55 ; 196.85,-590.55 236.22,-511.81
Bottom Assembly (Mech12):
  lines w3.94: -236.22,-480.31 0,-487.2 236.22,-494.09 ; -236.22,-450.79 0,-457.68 236.22,-464.57 ; -236.22,-421.26 0,-428.15 236.22,-435.04 ; -236.22,-391.73 0,-398.62 236.22,-405.51 ; -236.22,-362.2 0,-369.09 236.22,-375.98 ; -236.22,-332.68 0,-339.57 236.22,-346.46 ; -236.22,-303.15 0,-310.04 236.22,-316.93 ; -236.22,-273.62 0,-280.51 236.22,-287.4 ; -236.22,-244.09 0,-250.98 236.22,-257.87 ; -236.22,-214.57 0,-221.46 236.22,-228.35 ; -236.22,-185.04 0,-191.93 236.22,-198.82 ; -236.22,-155.51 0,-162.4 236.22,-169.29 ; -236.22,-125.98 0,-132.87 236.22,-139.76 ; -236.22,-96.46 0,-103.35 236.22,-110.24 ; -236.22,-66.93 0,-73.82 236.22,-80.71 ; -236.22,-37.4 0,-44.29 236.22,-51.18 ; -236.22,-7.87 0,-14.76 236.22,-21.65
  lines w7.87: -236.22,0 -236.22,-511.81 ; -15.75,-826.77 -15.75,-1188.98 -11.81,-1196.85 11.81,-1196.85 15.75,-1188.98 15.75,-826.77 ; 236.22,0 236.22,-511.81 ; -285.43,39.37 285.43,39.37 ; -285.43,39.37 -246.06,78.74 246.06,78.74 285.43,39.37 ; -285.43,39.37 -285.43,0 285.43,0 285.43,39.37 ; -236.22,-511.81 -196.85,-590.55 ; -236.22,-511.81 236.22,-511.81 ; -196.85,-590.55 -196.85,-826.77 196.85,-826.77 196.85,-590.55 ; -196.85,-590.55 196.85,-590.55 ; 196.85,-590.55 236.22,-511.81
3D body "SLB4-F6.3_grey.step": height 245.47, standoff -324.8, extent -285.27,-1196.85 285.27,78.74

## SLB4-F6.3-PURPLE [mil]
pads (1):
  round 1 smd: 1(0,-1244.09)
Top Layer:
  region: -47.24,-1181.1 -47.17,-1183.75 -46.58,-1189.02 -45.4,-1194.18 -43.65,-1199.18 -41.35,-1203.96 -38.53,-1208.44 -35.23,-1212.58 -31.48,-1216.33 -27.34,-1219.63 -22.85,-1222.45 -18.08,-1224.75 -13.08,-1226.5 -7.91,-1227.68 -2.65,-1228.27 2.65,-1228.27 7.91,-1227.68 13.08,-1226.5 18.08,-1224.75 22.85,-1222.45 27.34,-1219.63 31.48,-1216.33 35.23,-1212.58 38.53,-1208.44 41.35,-1203.96 43.65,-1199.18 45.4,-1194.18 46.58,-1189.02 47.17,-1183.75 47.24,-1181.1 47.24,-866.14 47.24,-864.08 47.78,-859.98 48.85,-856 50.43,-852.18 52.5,-848.61 55.01,-845.33 57.93,-842.41 61.2,-839.9 64.78,-837.83 68.59,-836.25 72.58,-835.18 76.68,-834.65 78.74,-834.65 78.74,-1181.1 78.74,-1184.97 77.98,-1192.67 76.47,-1200.26 74.23,-1207.66 71.27,-1214.81 67.62,-1221.63 63.32,-1228.06 58.41,-1234.04 52.94,-1239.52 46.96,-1244.42 40.53,-1248.72 33.71,-1252.37 26.56,-1255.33 19.16,-1257.57 11.57,-1259.08 3.87,-1259.84 -3.87,-1259.84 -11.57,-1259.08 -19.16,-1257.57 -26.56,-1255.33 -33.71,-1252.37 -40.53,-1248.72 -46.96,-1244.42 -52.94,-1239.52 -58.41,-1234.04 -63.32,-1228.06 -67.62,-1221.63 -71.27,-1214.81 -74.23,-1207.66 -76.47,-1200.26 -77.98,-1192.67 -78.74,-1184.97 -78.74,-1181.1 -78.74,-834.65 -76.68,-834.65 -72.58,-835.18 -68.59,-836.25 -64.78,-837.83 -61.2,-839.9 -57.93,-842.41 -55.01,-845.33 -52.5,-848.61 -50.43,-852.18 -48.85,-856 -47.78,-859.98 -47.24,-864.08 -47.24,-866.14
Top Assembly:
  lines w3.94: -236.22,-508.86 0,-501.97 236.22,-495.08 ; -236.22,-479.33 0,-472.44 236.22,-465.55 ; -236.22,-449.8 0,-442.91 236.22,-436.02 ; -236.22,-420.28 0,-413.39 236.22,-406.5 ; -236.22,-390.75 0,-383.86 236.22,-376.97 ; -236.22,-361.22 0,-354.33 236.22,-347.44 ; -236.22,-331.69 0,-324.8 236.22,-317.91 ; -236.22,-302.17 0,-295.28 236.22,-288.39 ; -236.22,-272.64 0,-265.75 236.22,-258.86 ; -236.22,-243.11 0,-236.22 236.22,-229.33 ; -236.22,-213.58 0,-206.69 236.22,-199.8 ; -236.22,-184.06 0,-177.17 236.22,-170.28 ; -236.22,-154.53 0,-147.64 236.22,-140.75 ; -236.22,-125 0,-118.11 236.22,-111.22 ; -236.22,-95.47 0,-88.58 236.22,-81.69 ; -236.22,-65.94 0,-59.06 236.22,-52.17 ; -236.22,-36.42 0,-29.53 236.22,-22.64 ; -236.22,-6.89 0,0
  lines w7.87: -236.22,0 -236.22,-511.81 ; -15.75,-826.77 -15.75,-1188.98 -11.81,-1196.85 11.81,-1196.85 15.75,-1188.98 15.75,-826.77 ; 236.22,0 236.22,-511.81 ; -285.43,39.37 285.43,39.37 ; -285.43,39.37 -285.43,0 285.43,0 285.43,39.37 ; -285.43,39.37 -246.06,78.74 246.06,78.74 285.43,39.37 ; -236.22,-511.81 -196.85,-590.55 ; -236.22,-511.81 236.22,-511.81 ; -196.85,-590.55 -196.85,-826.77 196.85,-826.77 196.85,-590.55 ; -196.85,-590.55 196.85,-590.55 ; 196.85,-590.55 236.22,-511.81
Bottom Assembly (Mech12):
  lines w3.94: -236.22,-480.31 0,-487.2 236.22,-494.09 ; -236.22,-450.79 0,-457.68 236.22,-464.57 ; -236.22,-421.26 0,-428.15 236.22,-435.04 ; -236.22,-391.73 0,-398.62 236.22,-405.51 ; -236.22,-362.2 0,-369.09 236.22,-375.98 ; -236.22,-332.68 0,-339.57 236.22,-346.46 ; -236.22,-303.15 0,-310.04 236.22,-316.93 ; -236.22,-273.62 0,-280.51 236.22,-287.4 ; -236.22,-244.09 0,-250.98 236.22,-257.87 ; -236.22,-214.57 0,-221.46 236.22,-228.35 ; -236.22,-185.04 0,-191.93 236.22,-198.82 ; -236.22,-155.51 0,-162.4 236.22,-169.29 ; -236.22,-125.98 0,-132.87 236.22,-139.76 ; -236.22,-96.46 0,-103.35 236.22,-110.24 ; -236.22,-66.93 0,-73.82 236.22,-80.71 ; -236.22,-37.4 0,-44.29 236.22,-51.18 ; -236.22,-7.87 0,-14.76 236.22,-21.65
  lines w7.87: -236.22,0 -236.22,-511.81 ; -15.75,-826.77 -15.75,-1188.98 -11.81,-1196.85 11.81,-1196.85 15.75,-1188.98 15.75,-826.77 ; 236.22,0 236.22,-511.81 ; -285.43,39.37 285.43,39.37 ; -285.43,39.37 -246.06,78.74 246.06,78.74 285.43,39.37 ; -285.43,39.37 -285.43,0 285.43,0 285.43,39.37 ; -236.22,-511.81 -196.85,-590.55 ; -236.22,-511.81 236.22,-511.81 ; -196.85,-590.55 -196.85,-826.77 196.85,-826.77 196.85,-590.55 ; -196.85,-590.55 196.85,-590.55 ; 196.85,-590.55 236.22,-511.81
3D body "SLB4-F6.3_purple.step": height 245.47, standoff -324.8, extent -285.27,-1196.85 285.27,78.74

## SLB4-F6.3-RED [mil]
pads (1):
  round 1 smd: 1(0,-1244.09)
Top Layer:
  region: -47.24,-1181.1 -47.17,-1183.75 -46.58,-1189.02 -45.4,-1194.18 -43.65,-1199.18 -41.35,-1203.96 -38.53,-1208.44 -35.23,-1212.58 -31.48,-1216.33 -27.34,-1219.63 -22.85,-1222.45 -18.08,-1224.75 -13.08,-1226.5 -7.91,-1227.68 -2.65,-1228.27 2.65,-1228.27 7.91,-1227.68 13.08,-1226.5 18.08,-1224.75 22.85,-1222.45 27.34,-1219.63 31.48,-1216.33 35.23,-1212.58 38.53,-1208.44 41.35,-1203.96 43.65,-1199.18 45.4,-1194.18 46.58,-1189.02 47.17,-1183.75 47.24,-1181.1 47.24,-866.14 47.24,-864.08 47.78,-859.98 48.85,-856 50.43,-852.18 52.5,-848.61 55.01,-845.33 57.93,-842.41 61.2,-839.9 64.78,-837.83 68.59,-836.25 72.58,-835.18 76.68,-834.65 78.74,-834.65 78.74,-1181.1 78.74,-1184.97 77.98,-1192.67 76.47,-1200.26 74.23,-1207.66 71.27,-1214.81 67.62,-1221.63 63.32,-1228.06 58.41,-1234.04 52.94,-1239.52 46.96,-1244.42 40.53,-1248.72 33.71,-1252.37 26.56,-1255.33 19.16,-1257.57 11.57,-1259.08 3.87,-1259.84 -3.87,-1259.84 -11.57,-1259.08 -19.16,-1257.57 -26.56,-1255.33 -33.71,-1252.37 -40.53,-1248.72 -46.96,-1244.42 -52.94,-1239.52 -58.41,-1234.04 -63.32,-1228.06 -67.62,-1221.63 -71.27,-1214.81 -74.23,-1207.66 -76.47,-1200.26 -77.98,-1192.67 -78.74,-1184.97 -78.74,-1181.1 -78.74,-834.65 -76.68,-834.65 -72.58,-835.18 -68.59,-836.25 -64.78,-837.83 -61.2,-839.9 -57.93,-842.41 -55.01,-845.33 -52.5,-848.61 -50.43,-852.18 -48.85,-856 -47.78,-859.98 -47.24,-864.08 -47.24,-866.14
Top Assembly:
  lines w3.94: -236.22,-508.86 0,-501.97 236.22,-495.08 ; -236.22,-479.33 0,-472.44 236.22,-465.55 ; -236.22,-449.8 0,-442.91 236.22,-436.02 ; -236.22,-420.28 0,-413.39 236.22,-406.5 ; -236.22,-390.75 0,-383.86 236.22,-376.97 ; -236.22,-361.22 0,-354.33 236.22,-347.44 ; -236.22,-331.69 0,-324.8 236.22,-317.91 ; -236.22,-302.17 0,-295.28 236.22,-288.39 ; -236.22,-272.64 0,-265.75 236.22,-258.86 ; -236.22,-243.11 0,-236.22 236.22,-229.33 ; -236.22,-213.58 0,-206.69 236.22,-199.8 ; -236.22,-184.06 0,-177.17 236.22,-170.28 ; -236.22,-154.53 0,-147.64 236.22,-140.75 ; -236.22,-125 0,-118.11 236.22,-111.22 ; -236.22,-95.47 0,-88.58 236.22,-81.69 ; -236.22,-65.94 0,-59.06 236.22,-52.17 ; -236.22,-36.42 0,-29.53 236.22,-22.64 ; -236.22,-6.89 0,0
  lines w7.87: -236.22,0 -236.22,-511.81 ; -15.75,-826.77 -15.75,-1188.98 -11.81,-1196.85 11.81,-1196.85 15.75,-1188.98 15.75,-826.77 ; 236.22,0 236.22,-511.81 ; -285.43,39.37 285.43,39.37 ; -285.43,39.37 -285.43,0 285.43,0 285.43,39.37 ; -285.43,39.37 -246.06,78.74 246.06,78.74 285.43,39.37 ; -236.22,-511.81 -196.85,-590.55 ; -236.22,-511.81 236.22,-511.81 ; -196.85,-590.55 -196.85,-826.77 196.85,-826.77 196.85,-590.55 ; -196.85,-590.55 196.85,-590.55 ; 196.85,-590.55 236.22,-511.81
Bottom Assembly (Mech12):
  lines w3.94: -236.22,-480.31 0,-487.2 236.22,-494.09 ; -236.22,-450.79 0,-457.68 236.22,-464.57 ; -236.22,-421.26 0,-428.15 236.22,-435.04 ; -236.22,-391.73 0,-398.62 236.22,-405.51 ; -236.22,-362.2 0,-369.09 236.22,-375.98 ; -236.22,-332.68 0,-339.57 236.22,-346.46 ; -236.22,-303.15 0,-310.04 236.22,-316.93 ; -236.22,-273.62 0,-280.51 236.22,-287.4 ; -236.22,-244.09 0,-250.98 236.22,-257.87 ; -236.22,-214.57 0,-221.46 236.22,-228.35 ; -236.22,-185.04 0,-191.93 236.22,-198.82 ; -236.22,-155.51 0,-162.4 236.22,-169.29 ; -236.22,-125.98 0,-132.87 236.22,-139.76 ; -236.22,-96.46 0,-103.35 236.22,-110.24 ; -236.22,-66.93 0,-73.82 236.22,-80.71 ; -236.22,-37.4 0,-44.29 236.22,-51.18 ; -236.22,-7.87 0,-14.76 236.22,-21.65
  lines w7.87: -236.22,0 -236.22,-511.81 ; -15.75,-826.77 -15.75,-1188.98 -11.81,-1196.85 11.81,-1196.85 15.75,-1188.98 15.75,-826.77 ; 236.22,0 236.22,-511.81 ; -285.43,39.37 285.43,39.37 ; -285.43,39.37 -246.06,78.74 246.06,78.74 285.43,39.37 ; -285.43,39.37 -285.43,0 285.43,0 285.43,39.37 ; -236.22,-511.81 -196.85,-590.55 ; -236.22,-511.81 236.22,-511.81 ; -196.85,-590.55 -196.85,-826.77 196.85,-826.77 196.85,-590.55 ; -196.85,-590.55 196.85,-590.55 ; 196.85,-590.55 236.22,-511.81
3D body "SLB4-F6.3_red.step": height 245.47, standoff -324.8, extent -285.27,-1196.85 285.27,78.74

## SLB4-F6.3-WHITE [mil]
pads (1):
  round 1 smd: 1(0,-1244.09)
Top Layer:
  region: -47.24,-1181.1 -47.17,-1183.75 -46.58,-1189.02 -45.4,-1194.18 -43.65,-1199.18 -41.35,-1203.96 -38.53,-1208.44 -35.23,-1212.58 -31.48,-1216.33 -27.34,-1219.63 -22.85,-1222.45 -18.08,-1224.75 -13.08,-1226.5 -7.91,-1227.68 -2.65,-1228.27 2.65,-1228.27 7.91,-1227.68 13.08,-1226.5 18.08,-1224.75 22.85,-1222.45 27.34,-1219.63 31.48,-1216.33 35.23,-1212.58 38.53,-1208.44 41.35,-1203.96 43.65,-1199.18 45.4,-1194.18 46.58,-1189.02 47.17,-1183.75 47.24,-1181.1 47.24,-866.14 47.24,-864.08 47.78,-859.98 48.85,-856 50.43,-852.18 52.5,-848.61 55.01,-845.33 57.93,-842.41 61.2,-839.9 64.78,-837.83 68.59,-836.25 72.58,-835.18 76.68,-834.65 78.74,-834.65 78.74,-1181.1 78.74,-1184.97 77.98,-1192.67 76.47,-1200.26 74.23,-1207.66 71.27,-1214.81 67.62,-1221.63 63.32,-1228.06 58.41,-1234.04 52.94,-1239.52 46.96,-1244.42 40.53,-1248.72 33.71,-1252.37 26.56,-1255.33 19.16,-1257.57 11.57,-1259.08 3.87,-1259.84 -3.87,-1259.84 -11.57,-1259.08 -19.16,-1257.57 -26.56,-1255.33 -33.71,-1252.37 -40.53,-1248.72 -46.96,-1244.42 -52.94,-1239.52 -58.41,-1234.04 -63.32,-1228.06 -67.62,-1221.63 -71.27,-1214.81 -74.23,-1207.66 -76.47,-1200.26 -77.98,-1192.67 -78.74,-1184.97 -78.74,-1181.1 -78.74,-834.65 -76.68,-834.65 -72.58,-835.18 -68.59,-836.25 -64.78,-837.83 -61.2,-839.9 -57.93,-842.41 -55.01,-845.33 -52.5,-848.61 -50.43,-852.18 -48.85,-856 -47.78,-859.98 -47.24,-864.08 -47.24,-866.14
Top Assembly:
  lines w3.94: -236.22,-508.86 0,-501.97 236.22,-495.08 ; -236.22,-479.33 0,-472.44 236.22,-465.55 ; -236.22,-449.8 0,-442.91 236.22,-436.02 ; -236.22,-420.28 0,-413.39 236.22,-406.5 ; -236.22,-390.75 0,-383.86 236.22,-376.97 ; -236.22,-361.22 0,-354.33 236.22,-347.44 ; -236.22,-331.69 0,-324.8 236.22,-317.91 ; -236.22,-302.17 0,-295.28 236.22,-288.39 ; -236.22,-272.64 0,-265.75 236.22,-258.86 ; -236.22,-243.11 0,-236.22 236.22,-229.33 ; -236.22,-213.58 0,-206.69 236.22,-199.8 ; -236.22,-184.06 0,-177.17 236.22,-170.28 ; -236.22,-154.53 0,-147.64 236.22,-140.75 ; -236.22,-125 0,-118.11 236.22,-111.22 ; -236.22,-95.47 0,-88.58 236.22,-81.69 ; -236.22,-65.94 0,-59.06 236.22,-52.17 ; -236.22,-36.42 0,-29.53 236.22,-22.64 ; -236.22,-6.89 0,0
  lines w7.87: -236.22,0 -236.22,-511.81 ; -15.75,-826.77 -15.75,-1188.98 -11.81,-1196.85 11.81,-1196.85 15.75,-1188.98 15.75,-826.77 ; 236.22,0 236.22,-511.81 ; -285.43,39.37 285.43,39.37 ; -285.43,39.37 -285.43,0 285.43,0 285.43,39.37 ; -285.43,39.37 -246.06,78.74 246.06,78.74 285.43,39.37 ; -236.22,-511.81 -196.85,-590.55 ; -236.22,-511.81 236.22,-511.81 ; -196.85,-590.55 -196.85,-826.77 196.85,-826.77 196.85,-590.55 ; -196.85,-590.55 196.85,-590.55 ; 196.85,-590.55 236.22,-511.81
Bottom Assembly (Mech12):
  lines w3.94: -236.22,-480.31 0,-487.2 236.22,-494.09 ; -236.22,-450.79 0,-457.68 236.22,-464.57 ; -236.22,-421.26 0,-428.15 236.22,-435.04 ; -236.22,-391.73 0,-398.62 236.22,-405.51 ; -236.22,-362.2 0,-369.09 236.22,-375.98 ; -236.22,-332.68 0,-339.57 236.22,-346.46 ; -236.22,-303.15 0,-310.04 236.22,-316.93 ; -236.22,-273.62 0,-280.51 236.22,-287.4 ; -236.22,-244.09 0,-250.98 236.22,-257.87 ; -236.22,-214.57 0,-221.46 236.22,-228.35 ; -236.22,-185.04 0,-191.93 236.22,-198.82 ; -236.22,-155.51 0,-162.4 236.22,-169.29 ; -236.22,-125.98 0,-132.87 236.22,-139.76 ; -236.22,-96.46 0,-103.35 236.22,-110.24 ; -236.22,-66.93 0,-73.82 236.22,-80.71 ; -236.22,-37.4 0,-44.29 236.22,-51.18 ; -236.22,-7.87 0,-14.76 236.22,-21.65
  lines w7.87: -236.22,0 -236.22,-511.81 ; -15.75,-826.77 -15.75,-1188.98 -11.81,-1196.85 11.81,-1196.85 15.75,-1188.98 15.75,-826.77 ; 236.22,0 236.22,-511.81 ; -285.43,39.37 285.43,39.37 ; -285.43,39.37 -246.06,78.74 246.06,78.74 285.43,39.37 ; -285.43,39.37 -285.43,0 285.43,0 285.43,39.37 ; -236.22,-511.81 -196.85,-590.55 ; -236.22,-511.81 236.22,-511.81 ; -196.85,-590.55 -196.85,-826.77 196.85,-826.77 196.85,-590.55 ; -196.85,-590.55 196.85,-590.55 ; 196.85,-590.55 236.22,-511.81
3D body "SLB4-F6.3_white.step": height 245.47, standoff -324.8, extent -285.27,-1196.85 285.27,78.74

## SLB4-F6.3-YELLOW [mil]
pads (1):
  round 1 smd: 1(0,-1244.09)
Top Layer:
  region: -47.24,-1181.1 -47.17,-1183.75 -46.58,-1189.02 -45.4,-1194.18 -43.65,-1199.18 -41.35,-1203.96 -38.53,-1208.44 -35.23,-1212.58 -31.48,-1216.33 -27.34,-1219.63 -22.85,-1222.45 -18.08,-1224.75 -13.08,-1226.5 -7.91,-1227.68 -2.65,-1228.27 2.65,-1228.27 7.91,-1227.68 13.08,-1226.5 18.08,-1224.75 22.85,-1222.45 27.34,-1219.63 31.48,-1216.33 35.23,-1212.58 38.53,-1208.44 41.35,-1203.96 43.65,-1199.18 45.4,-1194.18 46.58,-1189.02 47.17,-1183.75 47.24,-1181.1 47.24,-866.14 47.24,-864.08 47.78,-859.98 48.85,-856 50.43,-852.18 52.5,-848.61 55.01,-845.33 57.93,-842.41 61.2,-839.9 64.78,-837.83 68.59,-836.25 72.58,-835.18 76.68,-834.65 78.74,-834.65 78.74,-1181.1 78.74,-1184.97 77.98,-1192.67 76.47,-1200.26 74.23,-1207.66 71.27,-1214.81 67.62,-1221.63 63.32,-1228.06 58.41,-1234.04 52.94,-1239.52 46.96,-1244.42 40.53,-1248.72 33.71,-1252.37 26.56,-1255.33 19.16,-1257.57 11.57,-1259.08 3.87,-1259.84 -3.87,-1259.84 -11.57,-1259.08 -19.16,-1257.57 -26.56,-1255.33 -33.71,-1252.37 -40.53,-1248.72 -46.96,-1244.42 -52.94,-1239.52 -58.41,-1234.04 -63.32,-1228.06 -67.62,-1221.63 -71.27,-1214.81 -74.23,-1207.66 -76.47,-1200.26 -77.98,-1192.67 -78.74,-1184.97 -78.74,-1181.1 -78.74,-834.65 -76.68,-834.65 -72.58,-835.18 -68.59,-836.25 -64.78,-837.83 -61.2,-839.9 -57.93,-842.41 -55.01,-845.33 -52.5,-848.61 -50.43,-852.18 -48.85,-856 -47.78,-859.98 -47.24,-864.08 -47.24,-866.14
Top Assembly:
  lines w3.94: -236.22,-508.86 0,-501.97 236.22,-495.08 ; -236.22,-479.33 0,-472.44 236.22,-465.55 ; -236.22,-449.8 0,-442.91 236.22,-436.02 ; -236.22,-420.28 0,-413.39 236.22,-406.5 ; -236.22,-390.75 0,-383.86 236.22,-376.97 ; -236.22,-361.22 0,-354.33 236.22,-347.44 ; -236.22,-331.69 0,-324.8 236.22,-317.91 ; -236.22,-302.17 0,-295.28 236.22,-288.39 ; -236.22,-272.64 0,-265.75 236.22,-258.86 ; -236.22,-243.11 0,-236.22 236.22,-229.33 ; -236.22,-213.58 0,-206.69 236.22,-199.8 ; -236.22,-184.06 0,-177.17 236.22,-170.28 ; -236.22,-154.53 0,-147.64 236.22,-140.75 ; -236.22,-125 0,-118.11 236.22,-111.22 ; -236.22,-95.47 0,-88.58 236.22,-81.69 ; -236.22,-65.94 0,-59.06 236.22,-52.17 ; -236.22,-36.42 0,-29.53 236.22,-22.64 ; -236.22,-6.89 0,0
  lines w7.87: -236.22,0 -236.22,-511.81 ; -15.75,-826.77 -15.75,-1188.98 -11.81,-1196.85 11.81,-1196.85 15.75,-1188.98 15.75,-826.77 ; 236.22,0 236.22,-511.81 ; -285.43,39.37 285.43,39.37 ; -285.43,39.37 -285.43,0 285.43,0 285.43,39.37 ; -285.43,39.37 -246.06,78.74 246.06,78.74 285.43,39.37 ; -236.22,-511.81 -196.85,-590.55 ; -236.22,-511.81 236.22,-511.81 ; -196.85,-590.55 -196.85,-826.77 196.85,-826.77 196.85,-590.55 ; -196.85,-590.55 196.85,-590.55 ; 196.85,-590.55 236.22,-511.81
Bottom Assembly (Mech12):
  lines w3.94: -236.22,-480.31 0,-487.2 236.22,-494.09 ; -236.22,-450.79 0,-457.68 236.22,-464.57 ; -236.22,-421.26 0,-428.15 236.22,-435.04 ; -236.22,-391.73 0,-398.62 236.22,-405.51 ; -236.22,-362.2 0,-369.09 236.22,-375.98 ; -236.22,-332.68 0,-339.57 236.22,-346.46 ; -236.22,-303.15 0,-310.04 236.22,-316.93 ; -236.22,-273.62 0,-280.51 236.22,-287.4 ; -236.22,-244.09 0,-250.98 236.22,-257.87 ; -236.22,-214.57 0,-221.46 236.22,-228.35 ; -236.22,-185.04 0,-191.93 236.22,-198.82 ; -236.22,-155.51 0,-162.4 236.22,-169.29 ; -236.22,-125.98 0,-132.87 236.22,-139.76 ; -236.22,-96.46 0,-103.35 236.22,-110.24 ; -236.22,-66.93 0,-73.82 236.22,-80.71 ; -236.22,-37.4 0,-44.29 236.22,-51.18 ; -236.22,-7.87 0,-14.76 236.22,-21.65
  lines w7.87: -236.22,0 -236.22,-511.81 ; -15.75,-826.77 -15.75,-1188.98 -11.81,-1196.85 11.81,-1196.85 15.75,-1188.98 15.75,-826.77 ; 236.22,0 236.22,-511.81 ; -285.43,39.37 285.43,39.37 ; -285.43,39.37 -246.06,78.74 246.06,78.74 285.43,39.37 ; -285.43,39.37 -285.43,0 285.43,0 285.43,39.37 ; -236.22,-511.81 -196.85,-590.55 ; -236.22,-511.81 236.22,-511.81 ; -196.85,-590.55 -196.85,-826.77 196.85,-826.77 196.85,-590.55 ; -196.85,-590.55 196.85,-590.55 ; 196.85,-590.55 236.22,-511.81
3D body "SLB4-F6.3_yellow.step": height 245.47, standoff -324.8, extent -285.27,-1196.85 285.27,78.74